# Altium schematic symbol library AMS1117-3.3.SchLib: 1 symbol
Pins are listed as number, name and electrical type; pins without a type are passive.

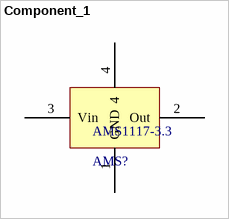
[diagram p0: symbol Component_1]

## Component_1
designator AMS1117-3.3, comment AMS?
pins: 1 GND, 2 Out, 3 Vin, 4